# EAGLE library part AT42QT1010 (library adam - ics)
Single channel touch sensor driver.
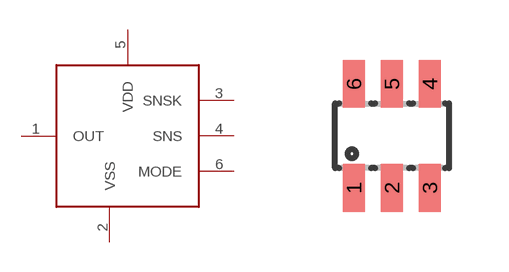
[diagram p8: symbol with the pads of SOT23-6L; footprint SOT23-6L]

Designator prefix -

## AT42QT1010  [SOT23-6L]
1  OUT  out
2  VSS  pwr
3  SNSK
4  SNS
5  VDD  pwr
6  MODE  in

## Footprint SOT23-6L (pad centres in mm)
Small Outline Transistor
smd 0.55 x 1.2: 1 -0.95,-1.3; 2 0,-1.3; 3 0.95,-1.3; 4 0.95,1.3; 5 0,1.3; 6 -0.95,1.3